# Altium footprint library SOT-23.PcbLib: 1 footprints
Each footprint in its own frame and in the unit in brackets; x right, y up, seen from the top. Pads: shape width x height; smd on the part's side, far side on the other; paste and mask are expansions set on the pad; w line width, h text height; cw(c..) or ccw(c..) is an arc to the next point about the centre after c.
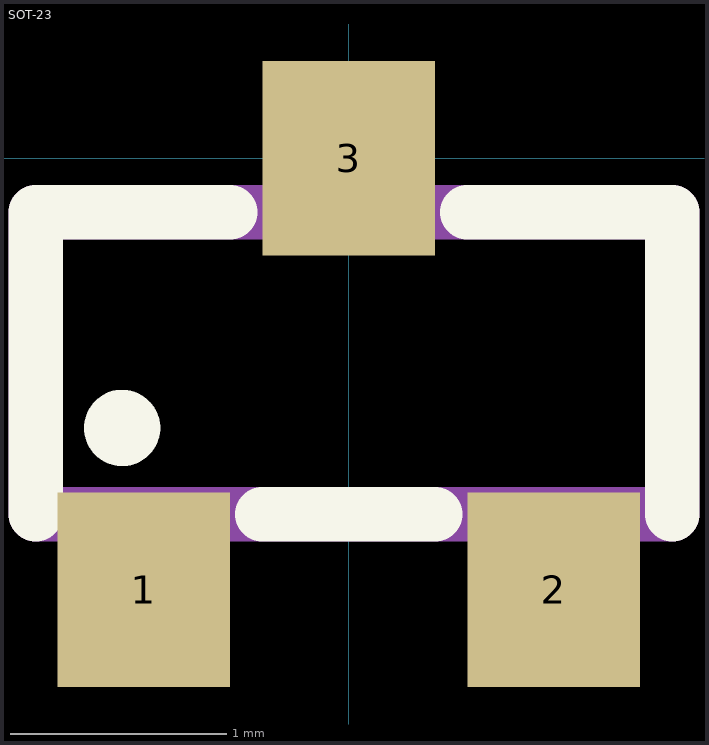
[diagram p0: the footprint, top view; thin cyan lines are the x and y axes]

## SOT-23 [mm]
pads (3):
  rect 0.8x0.9 smd: 1(-0.95,-2) 2(0.95,-2) 3(0,0)
Top Overlay:
  circle w0.254: c-1.05,-1.25 r0.05
  lines w0.254: -1.45,-1.65 -1.45,-0.25 -0.55,-0.25 ; -0.4,-1.65 0.4,-1.65 ; 0.55,-0.25 1.5,-0.25 1.5,-1.65
Mechanical 1:
  lines w0.254: -1.45,-1.65 1.5,-1.65 1.5,-0.25 -1.45,-0.25 -1.45,-1.65